# Altium schematic symbol library Battery.SchLib: 1 symbol
Pins are listed as number, name and electrical type; pins without a type are passive.

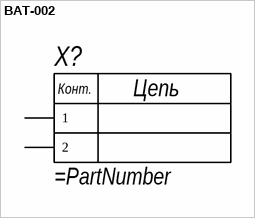
[diagram p0: symbol BAT-002]

## BAT-002
designator X?
pins: 1, 2
text: Цепь; Конт.